# EAGLE library part MICROSIM (library Bjorn4)
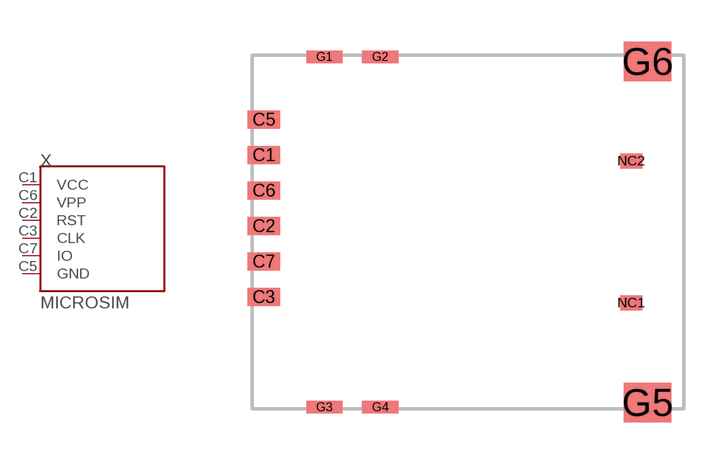
[diagram p4: symbol with the pads of 0786463001; footprint 0786463001]

Designator prefix X

## MICROSIM786463001  [0786463001]
C1  VCC
C2  RST
C3  CLK
C5  GND
C6  VPP
C7  IO

## Footprint 0786463001 (pad centres in mm)
smd 1.15 x 0.65: C1 -7.295,2.755; C2 -7.295,0.215; C3 -7.295,-2.325; C5 -7.295,4.025; C6 -7.295,1.485; C7 -7.295,-1.055
smd 1.3 x 0.45: G1 -5.125,6.27; G2 -3.125,6.27; G3 -5.125,-6.27; G4 -3.125,-6.27
smd 1.7 x 1.4: G5 6.435,-6.105; G6 6.435,6.105
smd 0.8 x 0.54: NC1 5.855,-2.535; NC2 5.855,2.545